# Altium schematic symbol library EnergyMicroG.SchLib: 1 symbol
Pins are listed as number, name and electrical type; pins without a type are passive.

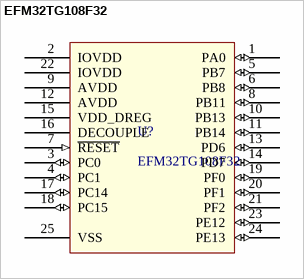
[diagram p0: symbol EFM32TG108F32]

## EFM32TG108F32
designator U?
footprint QFN65P500X500-24V1N (QFN, 24-Leads, Body 5x5 mm, Pitch 0.65mm, IPC Medium Density)
pins: 1 PA0 (io), 2 IOVDD (power), 3 PC0 (io), 4 PC1 (io), 5 PB7 (io), 6 PB8 (io), 7 ~{RESET} (in), 8 PB11 (io), 9 AVDD (power), 10 PB13 (io), 11 PB14 (io), 12 AVDD (power), 13 PD6 (io), 14 PD7 (io), 15 VDD_DREG (power), 16 DECOUPLE, 17 PC14 (io), 18 PC15 (io), 19 PF0 (io), 20 PF1 (io), 21 PF2 (io), 22 IOVDD (power), 23 PE12 (io), 24 PE13 (io), 25 VSS (power)